# EAGLE library part EL7457CLZ (library Intersil_By_element14_Batch_1)
CMOS Driver
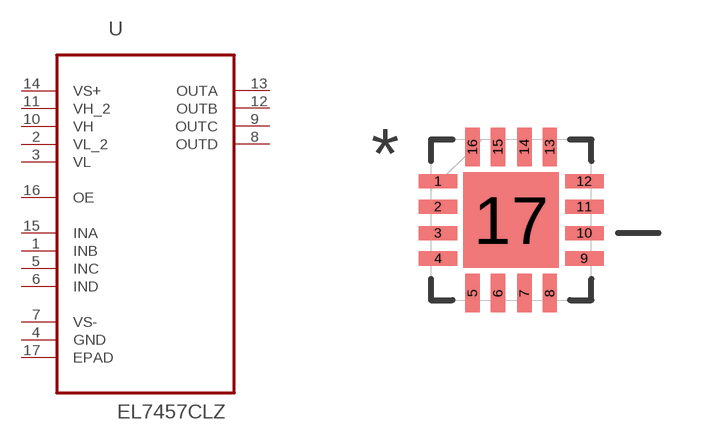
[diagram p80: symbol with the pads of QFN65P400X400X90-16N; footprint QFN65P400X400X90-16N]

Designator prefix U

## EL7457CLZ (MPN: EL7457CLZ; OC_FARNELL: 1561978; OC_NEWARK: 61J5673; PACKAGE: QFN-16; SUPPLIER: INTERSIL)  [QFN65P400X400X90-16N]
1  INB  in
2  VL_2  pwr
3  VL  pwr
4  GND  pas
5  INC  in
6  IND  in
7  VS-  pwr
8  OUTD  out
9  OUTC  out
10  VH  pwr
11  VH_2  pwr
12  OUTB  out
13  OUTA  out
14  VS+  pwr
15  INA  in
16  OE  in
17  EPAD  pas

## Footprint QFN65P400X400X90-16N (pad centres in mm)
smd 0.965 x 0.356: 1 -1.829,0.965; 2 -1.829,0.33; 3 -1.829,-0.33; 4 -1.829,-0.965; 9 1.829,-0.965; 10 1.829,-0.33; 11 1.829,0.33; 12 1.829,0.965
smd 0.356 x 0.965: 5 -0.965,-1.829; 6 -0.33,-1.829; 7 0.33,-1.829; 8 0.965,-1.829; 13 0.965,1.829; 14 0.33,1.829; 15 -0.33,1.829; 16 -0.965,1.829
smd 2.388 x 2.388: 17 0,0